# Altium footprint library PcbLib_V1.PcbLib: 20 footprints (part 1 of 2)
Each footprint in its own frame and in the unit in brackets; x right, y up, seen from the top. Pads: shape width x height; smd on the part's side, far side on the other; paste and mask are expansions set on the pad; w line width, h text height; cw(c..) or ccw(c..) is an arc to the next point about the centre after c.
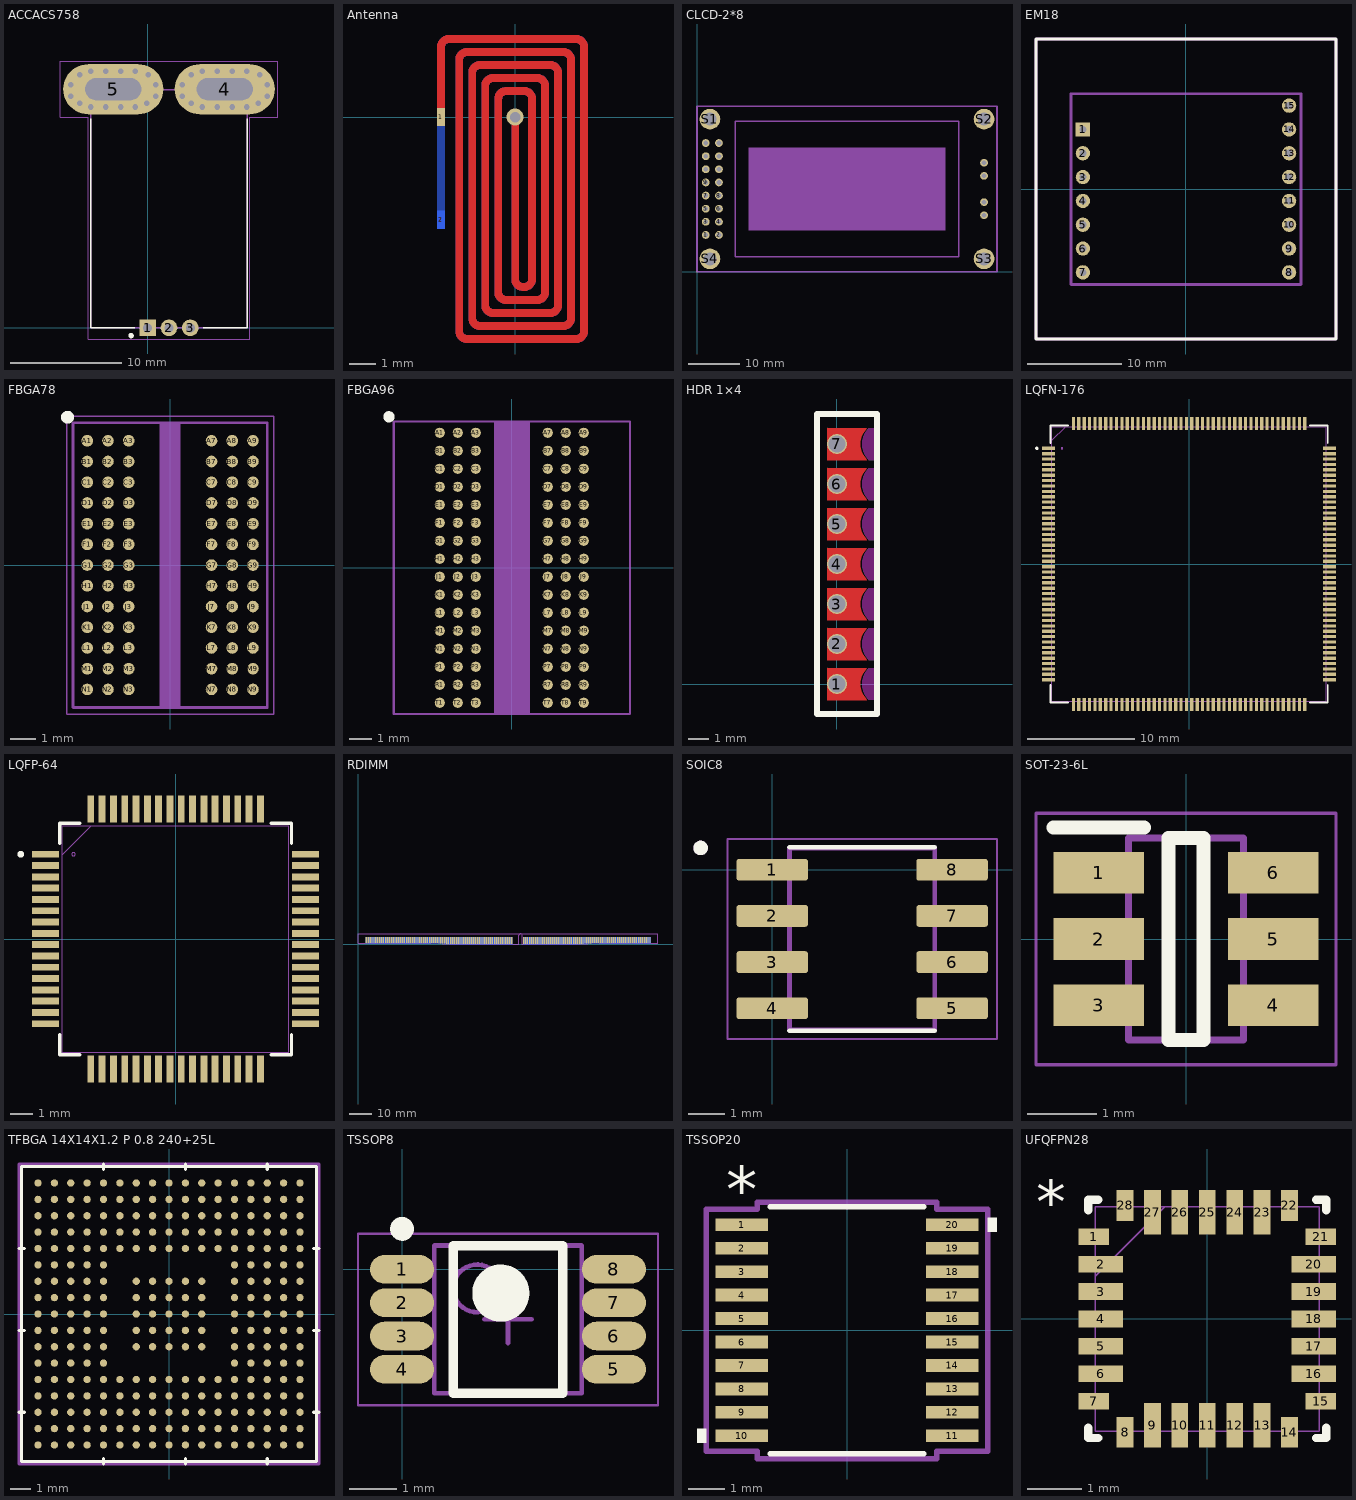
[diagram p0: the footprints below, top view; thin cyan lines are the x and y axes]

## ACCACS758 [mm]
pads (37):
  rect 1.5x1.5 hole 0.8: 1(0,0)
  round 1.5 hole 0.8: 2(1.91,0) 3(3.82,0)
  oval 9x4.5 hole 2 slot 5 at 0 deg: 4(6.91,21.4) 5(-3.09,21.4)
  round 0.8 hole 0.5: 4_1(4.91,19.8) 4_2(6.24,19.8) 4_3(7.57,19.8) 4_4(8.9,19.8) 4_5(9.91,20.13) 4_6(10.71,20.75) 4_7(10.71,21.8) 4_8(10.06,22.7) 4_9(8.9,23) 4_10(7.57,23) 4_11(6.24,23) 4_12(4.91,23) 4_13(3.91,22.7) 4_14(3.11,21.8) 4_15(3.11,20.75) 4_16(3.91,20.13) 5_1(-5.09,19.8) 5_2(-3.76,19.8) 5_3(-2.43,19.8) 5_4(-1.1,19.8) 5_5(-6.09,20.13) 5_6(-6.89,20.75) 5_7(-6.89,21.8) 5_8(-6.09,22.7) 5_9(-5.09,23) 5_10(-3.76,23) 5_11(-2.43,23) 5_12(-1.1,23) 5_13(0.06,22.7) 5_14(0.71,21.8) 5_15(0.71,20.75) 5_16(-0.09,20.13)
Top Overlay:
  circle w0.24: c-1.49,-0.7 r0.12
  lines w0.127: -5.09,18.76 -5.09,0 -1.15,0 ; 4.97,0 8.91,0 8.91,18.74
Mechanical 1:
  lines w0: -3.09,22.4 -3.04,22.4 ; 6.91,22.4 6.96,22.4 ; -5.09,20.4 cw(c-5.09,21.4) -5.09,22.4 -1.09,22.4 cw(c-1.09,21.4) -1.09,20.4 -5.09,20.4 ; 4.91,20.4 cw(c4.91,21.4) 4.91,22.4 8.91,22.4 cw(c8.91,21.4) 8.91,20.4 4.91,20.4
Mechanical 13:
  lines w0.127: -5.09,0 -5.09,21.341 8.91,21.341 8.91,0 -5.09,0
Mechanical 15:
  lines w0.05: -7.84,18.9 -5.34,18.9 -5.34,-1 9.16,-1 9.16,18.9 11.66,18.9 11.66,23.9 -7.84,23.9 -7.84,18.9
3D body "Allegro-CA-CB-PFF-Package.STEP": height 10.07, standoff -0.47, extent -5.102,-0.164 8.898,22.653

## Antenna [mm]
pads (2):
  rect 0.3x0.7 smd: 1(-2.85,0)
  rect 0.3x0.7 smd far side: 2(-2.85,-3.95)
via 0,0 diameter 0.65 hole 0.4
Top Layer:
  lines w0.3: -2.85,0 -2.85,2.7 cw(c-2.55,2.7) -2.55,3 2.35,3 cw(c2.35,2.7) 2.65,2.7 ; 0,0 0,-6.23 ccw(c0.3,-6.23) 0.3,-6.53 ; 0.35,-6.53 ccw(c0.35,-6.23) 0.65,-6.23 0.65,0.7 ccw(c0.35,0.7) 0.35,1 ; -1.15,1.2 cw(c-0.85,1.2) -0.85,1.5 0.85,1.5 ; -1.15,1.2 -1.15,1.2 ; -1.15,1.2 -1.15,-7.23 ccw(c-0.85,-7.23) -0.85,-7.53 1.35,-7.53 ccw(c1.35,-7.23) 1.65,-7.23 1.65,1.7 ccw(c1.35,1.7) 1.35,2 ; -0.65,0.7 cw(c-0.35,0.7) -0.35,1 0.35,1 ; -0.65,0.7 -0.65,0.7 ; -0.65,0.7 -0.65,-6.73 ccw(c-0.35,-6.73) -0.35,-7.03 0.85,-7.03 ccw(c0.85,-6.73) 1.15,-6.73 ; 0.35,1 0.35,1 ; 0.85,1.5 cw(c0.85,1.2) 1.15,1.2 1.15,-6.73 ; 0.85,1.5 0.85,1.5 ; 1.15,-6.73 1.15,-6.73 ; 1.35,2 1.35,2 ; 1.35,2 -1.35,2 ccw(c-1.35,1.7) -1.65,1.7 -1.65,-7.73 ccw(c-1.35,-7.73) -1.35,-8.03 1.85,-8.03 ccw(c1.85,-7.73) 2.15,-7.73 2.15,2.2 ccw(c1.85,2.2) 1.85,2.5 -1.85,2.5 ccw(c-1.85,2.2) -2.15,2.2 -2.15,-8.23 ccw(c-1.85,-8.23) -1.85,-8.53 2.35,-8.53 ccw(c2.35,-8.23) 2.65,-8.23 2.65,2.7 ; 2.65,2.7 2.65,2.7
Bottom Layer:
  lines w0.3: -2.85,-3.95 -2.85,2.7 cw(c-2.55,2.7) -2.55,3 2.35,3 cw(c2.35,2.7) 2.65,2.7 ; 0,0 0,-6.23 ccw(c0.3,-6.23) 0.3,-6.53 ; 0.35,-6.53 ccw(c0.35,-6.23) 0.65,-6.23 0.65,0.7 ccw(c0.35,0.7) 0.35,1 ; -1.15,1.2 cw(c-0.85,1.2) -0.85,1.5 0.85,1.5 ; -1.15,1.2 -1.15,1.2 ; -1.15,1.2 -1.15,-7.23 ccw(c-0.85,-7.23) -0.85,-7.53 1.35,-7.53 ccw(c1.35,-7.23) 1.65,-7.23 1.65,1.7 ccw(c1.35,1.7) 1.35,2 ; -0.65,0.7 cw(c-0.35,0.7) -0.35,1 0.35,1 ; -0.65,0.7 -0.65,0.7 ; -0.65,0.7 -0.65,-6.73 ccw(c-0.35,-6.73) -0.35,-7.03 0.85,-7.03 ccw(c0.85,-6.73) 1.15,-6.73 ; 0.35,1 0.35,1 ; 0.85,1.5 cw(c0.85,1.2) 1.15,1.2 1.15,-6.73 ; 0.85,1.5 0.85,1.5 ; 1.15,-6.73 1.15,-6.73 ; 1.35,2 -1.35,2 ccw(c-1.35,1.7) -1.65,1.7 -1.65,-7.73 ccw(c-1.35,-7.73) -1.35,-8.03 1.85,-8.03 ccw(c1.85,-7.73) 2.15,-7.73 2.15,2.2 ccw(c1.85,2.2) 1.85,2.5 -1.85,2.5 ccw(c-1.85,2.2) -2.15,2.2 -2.15,-8.23 ccw(c-1.85,-8.23) -1.85,-8.53 2.35,-8.53 ccw(c2.35,-8.23) 2.65,-8.23 2.65,2.7 ; 1.35,2 1.35,2 ; 2.65,2.7 2.65,2.7

## CLCD-2*8 [mm]
height 13.2
pads (24):
  round 1.5 hole 0.9: 1(1.7,7.11) 2(4.24,7.11) 3(1.7,9.65) 4(4.24,9.65) 5(1.7,12.19) 6(4.24,12.19) 7(1.7,14.73) 8(4.24,14.73) 9(1.7,17.27) 10(4.24,17.27) 11(1.7,19.81) 12(4.24,19.81) 13(1.7,22.35) 14(4.24,22.35) 15(1.7,24.89) 15(55.5,18.54) 15(55.5,21.08) 16(4.24,24.89) 16(55.5,10.92) 16(55.5,13.46)
  round 4 hole 2.5: S1(2.5,29.5) S2(55.5,29.5) S3(55.5,2.5) S4(2.5,2.5)
Mechanical 1:
  region: 10,8 10,24 48,24 48,8
  lines w0.3: 0,0 0,32 58,32 58,0 0,0 ; 7.4,2.9 50.6,2.9 50.6,29.1 7.4,29.1 7.4,2.9

## EM18 [mil] "RFID reader"
height 196.85
pads (15):
  rect 60x60 hole 30: 1(-433.07,250)
  round 60 hole 30: 2(-433.07,150) 3(-433.07,50) 4(-433.07,-50) 5(-433.07,-150) 6(-433.07,-250) 7(-433.07,-350) 8(433.07,-350) 9(433.07,-250) 10(433.07,-150) 11(433.07,-50) 12(433.07,50) 13(433.07,150) 14(433.07,250) 15(433.07,350)
Top Overlay:
  lines w11.81: -629.92,-629.92 629.92,-629.92 629.92,629.92 -629.92,629.92 -629.92,-629.92
Mechanical 1:
  lines w11.81: -483.07,-400.39 483.07,-400.39 483.07,400.39 -483.07,400.39 -483.07,-400.39
Mechanical 15:
  lines w11.81: -629.92,-629.92 629.92,-629.92 629.92,629.92 -629.92,629.92 -629.92,-629.92
3D body: height 118.11, standoff 11.81, extent -629.92,-629.92 629.92,629.92

## FBGA78 [mm] "BGA, 78-Leads, Body 7.50x11.00mmx1.10mm, Pitch 0.80mm"
height 1.1
pads (78):
  round 0.45 smd: A1(-3.2,4.8) A2(-2.4,4.8) A3(-1.6,4.8) A7(1.6,4.8) A8(2.4,4.8) A9(3.2,4.8) B1(-3.2,4) B2(-2.4,4) B3(-1.6,4) B7(1.6,4) B8(2.4,4) B9(3.2,4) C1(-3.2,3.2) C2(-2.4,3.2) C3(-1.6,3.2) C7(1.6,3.2) C8(2.4,3.2) C9(3.2,3.2) D1(-3.2,2.4) D2(-2.4,2.4) D3(-1.6,2.4) D7(1.6,2.4) D8(2.4,2.4) D9(3.2,2.4) E1(-3.2,1.6) E2(-2.4,1.6) E3(-1.6,1.6) E7(1.6,1.6) E8(2.4,1.6) E9(3.2,1.6) F1(-3.2,0.8) F2(-2.4,0.8) F3(-1.6,0.8) F7(1.6,0.8) F8(2.4,0.8) F9(3.2,0.8) G1(-3.2,0) G2(-2.4,0) G3(-1.6,0) G7(1.6,0) G8(2.4,0) G9(3.2,0) H1(-3.2,-0.8) H2(-2.4,-0.8) H3(-1.6,-0.8) H7(1.6,-0.8) H8(2.4,-0.8) H9(3.2,-0.8) J1(-3.2,-1.6) J2(-2.4,-1.6) J3(-1.6,-1.6) J7(1.6,-1.6) J8(2.4,-1.6) J9(3.2,-1.6) K1(-3.2,-2.4) K2(-2.4,-2.4) K3(-1.6,-2.4) K7(1.6,-2.4) K8(2.4,-2.4) K9(3.2,-2.4) L1(-3.2,-3.2) L2(-2.4,-3.2) L3(-1.6,-3.2) L7(1.6,-3.2) L8(2.4,-3.2) L9(3.2,-3.2) M1(-3.2,-4) M2(-2.4,-4) M3(-1.6,-4) M7(1.6,-4) M8(2.4,-4) M9(3.2,-4) N1(-3.2,-4.8) N2(-2.4,-4.8) N3(-1.6,-4.8) N7(1.6,-4.8) N8(2.4,-4.8) N9(3.2,-4.8)
Top Overlay:
  circle w0.25: c-3.96,5.71 r0.125
Mechanical 13:
  lines w0.1: -3.75,-5.5 3.75,-5.5 3.75,5.5 -3.75,5.5 -3.75,-5.5
Mechanical 15:
  rectangle: -0.4,-5.5 0.4,5.5
  lines w0.05: -4,-5.75 4,-5.75 4,5.75 -4,5.75 -4,-5.75
3D body: height 1.1, standoff 0.4, extent -3.75,-5.5 3.75,5.5

## FBGA96 [mm] "BGA, 96-Leads, Body 10.50x13.00mmx1.10mm, Pitch 0.80mm"
height 1.1
pads (96):
  round 0.45 smd: A1(-3.2,6) A2(-2.4,6) A3(-1.6,6) A7(1.6,6) A8(2.4,6) A9(3.2,6) B1(-3.2,5.2) B2(-2.4,5.2) B3(-1.6,5.2) B7(1.6,5.2) B8(2.4,5.2) B9(3.2,5.2) C1(-3.2,4.4) C2(-2.4,4.4) C3(-1.6,4.4) C7(1.6,4.4) C8(2.4,4.4) C9(3.2,4.4) D1(-3.2,3.6) D2(-2.4,3.6) D3(-1.6,3.6) D7(1.6,3.6) D8(2.4,3.6) D9(3.2,3.6) E1(-3.2,2.8) E2(-2.4,2.8) E3(-1.6,2.8) E7(1.6,2.8) E8(2.4,2.8) E9(3.2,2.8) F1(-3.2,2) F2(-2.4,2) F3(-1.6,2) F7(1.6,2) F8(2.4,2) F9(3.2,2) G1(-3.2,1.2) G2(-2.4,1.2) G3(-1.6,1.2) G7(1.6,1.2) G8(2.4,1.2) G9(3.2,1.2) H1(-3.2,0.4) H2(-2.4,0.4) H3(-1.6,0.4) H7(1.6,0.4) H8(2.4,0.4) H9(3.2,0.4) J1(-3.2,-0.4) J2(-2.4,-0.4) J3(-1.6,-0.4) J7(1.6,-0.4) J8(2.4,-0.4) J9(3.2,-0.4) K1(-3.2,-1.2) K2(-2.4,-1.2) K3(-1.6,-1.2) K7(1.6,-1.2) K8(2.4,-1.2) K9(3.2,-1.2) L1(-3.2,-2) L2(-2.4,-2) L3(-1.6,-2) L7(1.6,-2) L8(2.4,-2) L9(3.2,-2) M1(-3.2,-2.8) M2(-2.4,-2.8) M3(-1.6,-2.8) M7(1.6,-2.8) M8(2.4,-2.8) M9(3.2,-2.8) N1(-3.2,-3.6) N2(-2.4,-3.6) N3(-1.6,-3.6) N7(1.6,-3.6) N8(2.4,-3.6) N9(3.2,-3.6) P1(-3.2,-4.4) P2(-2.4,-4.4) P3(-1.6,-4.4) P7(1.6,-4.4) P8(2.4,-4.4) P9(3.2,-4.4) R1(-3.2,-5.2) R2(-2.4,-5.2) R3(-1.6,-5.2) R7(1.6,-5.2) R8(2.4,-5.2) R9(3.2,-5.2) T1(-3.2,-6) T2(-2.4,-6) T3(-1.6,-6) T7(1.6,-6) T8(2.4,-6) T9(3.2,-6)
Top Overlay:
  circle w0.25: c-5.46,6.71 r0.125
Mechanical 13:
  lines w0.1: -5.25,-6.5 -5.25,6.5 5.25,6.5 5.25,-6.5 -5.25,-6.5
Mechanical 15:
  rectangle: -0.8,-6.5 0.8,6.5
3D body: height 1.1, standoff 0.4, extent -5.25,-6.5 5.25,6.5

## HDR 1×4 [mm]
height 10
pads (7):
  round 1 hole 0.85 paste+0 mask+0.102: 1(0,0) 2(0,2) 3(0,4) 4(0,6) 5(0,8) 6(0,10) 7(0,12)
Top Layer:
  region: -0.5,2.8 1.5,2.8 1.425,2.718 1.302,2.533 1.217,2.328 1.174,2.111 1.174,1.889 1.217,1.672 1.302,1.467 1.425,1.282 1.5,1.2 -0.5,1.2
  region: -0.5,4.8 1.5,4.8 1.425,4.718 1.302,4.533 1.217,4.328 1.174,4.111 1.174,3.889 1.217,3.672 1.302,3.467 1.425,3.282 1.5,3.2 -0.5,3.2
  region: -0.5,6.8 1.5,6.8 1.425,6.718 1.302,6.533 1.217,6.328 1.174,6.111 1.174,5.889 1.217,5.672 1.302,5.467 1.425,5.282 1.5,5.2 -0.5,5.2
  region: -0.5,8.8 1.5,8.8 1.425,8.718 1.302,8.533 1.217,8.328 1.174,8.111 1.174,7.889 1.217,7.672 1.302,7.467 1.425,7.282 1.5,7.2 -0.5,7.2
  region: -0.5,10.8 1.5,10.8 1.425,10.718 1.302,10.533 1.217,10.328 1.174,10.111 1.174,9.889 1.217,9.672 1.302,9.467 1.425,9.282 1.5,9.2 -0.5,9.2
  region: -0.5,12.8 1.5,12.8 1.425,12.718 1.302,12.533 1.217,12.328 1.174,12.111 1.174,11.889 1.217,11.672 1.302,11.467 1.425,11.282 1.5,11.2 -0.5,11.2
  region: -0.5,0.8 1.5,0.8 1.425,0.718 1.302,0.533 1.217,0.328 1.174,0.111 1.174,-0.111 1.217,-0.328 1.302,-0.533 1.425,-0.718 1.5,-0.8 -0.5,-0.8
Top Overlay:
  lines w0.3: -1,-1.5 -1,13.5 2,13.5 2,-1.5 -1,-1.5
Keep-Out Layer:
  board cut-out: 1.6,0.8 2,0.8 2,-0.8 1.6,-0.8 1.521,-0.721 1.397,-0.536 1.312,-0.33 1.269,-0.111 1.269,0.111 1.312,0.33 1.397,0.536 1.521,0.721
  board cut-out: 1.6,2.8 2,2.8 2,1.2 1.6,1.2 1.521,1.279 1.397,1.464 1.312,1.67 1.269,1.889 1.269,2.111 1.312,2.33 1.397,2.536 1.521,2.721
  board cut-out: 1.6,4.8 2,4.8 2,3.2 1.6,3.2 1.521,3.279 1.397,3.464 1.312,3.67 1.269,3.889 1.269,4.111 1.312,4.33 1.397,4.536 1.521,4.721
  board cut-out: 1.6,6.8 2,6.8 2,5.2 1.6,5.2 1.521,5.279 1.397,5.464 1.312,5.67 1.269,5.889 1.269,6.111 1.312,6.33 1.397,6.536 1.521,6.721
  board cut-out: 1.6,8.8 2,8.8 2,7.2 1.6,7.2 1.521,7.279 1.397,7.464 1.312,7.67 1.269,7.889 1.269,8.111 1.312,8.33 1.397,8.536 1.521,8.721
  board cut-out: 1.6,10.8 2,10.8 2,9.2 1.6,9.2 1.521,9.279 1.397,9.464 1.312,9.67 1.269,9.889 1.269,10.111 1.312,10.33 1.397,10.536 1.521,10.721
  board cut-out: 1.6,12.8 2,12.8 2,11.2 1.6,11.2 1.521,11.279 1.397,11.464 1.312,11.67 1.269,11.889 1.269,12.111 1.312,12.33 1.397,12.536 1.521,12.721

## LQFN-176 [mm]
pads (176):
  rect 1.2x0.3 smd: 1(-13.05,10.75) 2(-13.05,10.25) 3(-13.05,9.75) 4(-13.05,9.25) 5(-13.05,8.75) 6(-13.05,8.25) 7(-13.05,7.75) 8(-13.05,7.25) 9(-13.05,6.75) 10(-13.05,6.25) 11(-13.05,5.75) 12(-13.05,5.25) 13(-13.05,4.75) 14(-13.05,4.25) 15(-13.05,3.75) 16(-13.05,3.25) 17(-13.05,2.75) 18(-13.05,2.25) 19(-13.05,1.75) 20(-13.05,1.25) 21(-13.05,0.75) 22(-13.05,0.25) 23(-13.05,-0.25) 24(-13.05,-0.75) 25(-13.05,-1.25) 26(-13.05,-1.75) 27(-13.05,-2.25) 28(-13.05,-2.75) 29(-13.05,-3.25) 30(-13.05,-3.75) 31(-13.05,-4.25) 32(-13.05,-4.75) 33(-13.05,-5.25) 34(-13.05,-5.75) 35(-13.05,-6.25) 36(-13.05,-6.75) 37(-13.05,-7.25) 38(-13.05,-7.75) 39(-13.05,-8.25) 40(-13.05,-8.75) 41(-13.05,-9.25) 42(-13.05,-9.75) 43(-13.05,-10.25) 44(-13.05,-10.75) 89(13.05,-10.75) 90(13.05,-10.25) 91(13.05,-9.75) 92(13.05,-9.25) 93(13.05,-8.75) 94(13.05,-8.25) 95(13.05,-7.75) 96(13.05,-7.25) 97(13.05,-6.75) 98(13.05,-6.25) 99(13.05,-5.75) 100(13.05,-5.25) 101(13.05,-4.75) 102(13.05,-4.25) 103(13.05,-3.75) 104(13.05,-3.25) 105(13.05,-2.75) 106(13.05,-2.25) 107(13.05,-1.75) 108(13.05,-1.25) 109(13.05,-0.75) 110(13.05,-0.25) 111(13.05,0.25) 112(13.05,0.75) 113(13.05,1.25) 114(13.05,1.75) 115(13.05,2.25) 116(13.05,2.75) 117(13.05,3.25) 118(13.05,3.75) 119(13.05,4.25) 120(13.05,4.75) 121(13.05,5.25) 122(13.05,5.75) 123(13.05,6.25) 124(13.05,6.75) 125(13.05,7.25) 126(13.05,7.75) 127(13.05,8.25) 128(13.05,8.75) 129(13.05,9.25) 130(13.05,9.75) 131(13.05,10.25) 132(13.05,10.75)
  rect 0.3x1.2 smd: 45(-10.75,-13.05) 46(-10.25,-13.05) 47(-9.75,-13.05) 48(-9.25,-13.05) 49(-8.75,-13.05) 50(-8.25,-13.05) 51(-7.75,-13.05) 52(-7.25,-13.05) 53(-6.75,-13.05) 54(-6.25,-13.05) 55(-5.75,-13.05) 56(-5.25,-13.05) 57(-4.75,-13.05) 58(-4.25,-13.05) 59(-3.75,-13.05) 60(-3.25,-13.05) 61(-2.75,-13.05) 62(-2.25,-13.05) 63(-1.75,-13.05) 64(-1.25,-13.05) 65(-0.75,-13.05) 66(-0.25,-13.05) 67(0.25,-13.05) 68(0.75,-13.05) 69(1.25,-13.05) 70(1.75,-13.05) 71(2.25,-13.05) 72(2.75,-13.05) 73(3.25,-13.05) 74(3.75,-13.05) 75(4.25,-13.05) 76(4.75,-13.05) 77(5.25,-13.05) 78(5.75,-13.05) 79(6.25,-13.05) 80(6.75,-13.05) 81(7.25,-13.05) 82(7.75,-13.05) 83(8.25,-13.05) 84(8.75,-13.05) 85(9.25,-13.05) 86(9.75,-13.05) 87(10.25,-13.05) 88(10.75,-13.05) 133(10.75,13.05) 134(10.25,13.05) 135(9.75,13.05) 136(9.25,13.05) 137(8.75,13.05) 138(8.25,13.05) 139(7.75,13.05) 140(7.25,13.05) 141(6.75,13.05) 142(6.25,13.05) 143(5.75,13.05) 144(5.25,13.05) 145(4.75,13.05) 146(4.25,13.05) 147(3.75,13.05) 148(3.25,13.05) 149(2.75,13.05) 150(2.25,13.05) 151(1.75,13.05) 152(1.25,13.05) 153(0.75,13.05) 154(0.25,13.05) 155(-0.25,13.05) 156(-0.75,13.05) 157(-1.25,13.05) 158(-1.75,13.05) 159(-2.25,13.05) 160(-2.75,13.05) 161(-3.25,13.05) 162(-3.75,13.05) 163(-4.25,13.05) 164(-4.75,13.05) 165(-5.25,13.05) 166(-5.75,13.05) 167(-6.25,13.05) 168(-6.75,13.05) 169(-7.25,13.05) 170(-7.75,13.05) 171(-8.25,13.05) 172(-8.75,13.05) 173(-9.25,13.05) 174(-9.75,13.05) 175(-10.25,13.05) 176(-10.75,13.05)
Top Overlay:
  circle w0.152: c-14.154,10.75 r0.076
  lines w0.152: -12.877,-11.233 -12.877,-12.877 -11.233,-12.877 ; -12.877,11.233 -12.877,12.877 -11.233,12.877 ; 11.233,-12.877 12.877,-12.877 12.877,-11.233 ; 11.233,12.877 12.877,12.877 12.877,11.233
Mechanical 1:
  circle w0.025: c-11.815,10.75 r0.076
  lines w0.025: -12.75,11.48 -11.48,12.75 ; -12.75,-12.75 -12.75,12.75 12.75,12.75 12.75,-12.75 -12.75,-12.75
3D body "LQFP-176.step": height 1.65, standoff 0, extent -13.3,-13.3 13.3,13.3

## LQFP-64 [mm]
pads (64):
  rect 1.194x0.305 smd: 1(-5.75,3.75) 2(-5.75,3.25) 3(-5.75,2.75) 4(-5.75,2.25) 5(-5.75,1.75) 6(-5.75,1.25) 7(-5.75,0.75) 8(-5.75,0.25) 9(-5.75,-0.25) 10(-5.75,-0.75) 11(-5.75,-1.25) 12(-5.75,-1.75) 13(-5.75,-2.25) 14(-5.75,-2.75) 15(-5.75,-3.25) 16(-5.75,-3.75) 33(5.75,-3.75) 34(5.75,-3.25) 35(5.75,-2.75) 36(5.75,-2.25) 37(5.75,-1.75) 38(5.75,-1.25) 39(5.75,-0.75) 40(5.75,-0.25) 41(5.75,0.25) 42(5.75,0.75) 43(5.75,1.25) 44(5.75,1.75) 45(5.75,2.25) 46(5.75,2.75) 47(5.75,3.25) 48(5.75,3.75)
  rect 0.305x1.194 smd: 17(-3.75,-5.75) 18(-3.25,-5.75) 19(-2.75,-5.75) 20(-2.25,-5.75) 21(-1.75,-5.75) 22(-1.25,-5.75) 23(-0.75,-5.75) 24(-0.25,-5.75) 25(0.25,-5.75) 26(0.75,-5.75) 27(1.25,-5.75) 28(1.75,-5.75) 29(2.25,-5.75) 30(2.75,-5.75) 31(3.25,-5.75) 32(3.75,-5.75) 49(3.75,5.75) 50(3.25,5.75) 51(2.75,5.75) 52(2.25,5.75) 53(1.75,5.75) 54(1.25,5.75) 55(0.75,5.75) 56(0.25,5.75) 57(-0.25,5.75) 58(-0.75,5.75) 59(-1.25,5.75) 60(-1.75,5.75) 61(-2.25,5.75) 62(-2.75,5.75) 63(-3.25,5.75) 64(-3.75,5.75)
Top Overlay:
  circle w0.152: c-6.851,3.75 r0.076
  lines w0.152: -5.131,-4.234 -5.131,-5.131 -4.234,-5.131 ; -5.131,4.234 -5.131,5.131 -4.234,5.131 ; 4.234,-5.131 5.131,-5.131 5.131,-4.234 ; 4.234,5.131 5.131,5.131 5.131,4.234
Mechanical 1:
  circle w0.025: c-4.518,3.75 r0.076
  lines w0.025: -5.004,3.734 -3.734,5.004 ; -5.004,-5.004 5.004,-5.004 5.004,5.004 -5.004,5.004 -5.004,-5.004
3D body "LQFP64-10x10mm.step": height 1.6, standoff 0, extent -5.997,-5.997 5.997,5.997

## RDIMM [mm]
pads (288):
  rect 0.6x2.65 smd mask+0: 1(3.7,1.825) 2(4.55,1.825) 3(5.4,1.825) 4(6.25,1.825) 5(7.1,1.825) 6(7.95,1.825) 7(8.8,1.825) 8(9.65,1.825) 9(10.5,1.825) 10(11.35,1.825) 11(12.2,1.825) 12(13.05,1.825) 13(13.9,1.825) 14(14.75,1.825) 15(15.6,1.825) 16(16.45,1.825) 17(17.3,1.825) 18(18.15,1.825) 19(19,1.825) 20(19.85,1.825) 21(20.7,1.825) 22(21.55,1.825) 23(22.4,1.825) 24(23.25,1.825) 25(24.1,1.825) 26(24.95,1.825) 27(25.8,1.825) 28(26.65,1.825) 29(27.5,1.825) 30(28.35,1.825) 31(29.2,1.825) 32(30.05,1.825) 33(30.9,1.825) 34(31.75,1.825) 35(32.6,1.825) 36(33.45,1.825) 37(34.3,1.825) 115(105.12,1.825) 116(105.97,1.825) 117(106.82,1.825) 118(107.67,1.825) 119(108.52,1.825) 120(109.37,1.825) 121(110.22,1.825) 122(111.07,1.825) 123(111.92,1.825) 124(112.77,1.825) 125(113.62,1.825) 126(114.47,1.825) 127(115.32,1.825) 128(116.17,1.825) 129(117.02,1.825) 130(117.87,1.825) 131(118.72,1.825) 132(119.57,1.825) 133(120.42,1.825) 134(121.27,1.825) 135(122.12,1.825) 136(122.97,1.825) 137(123.82,1.825) 138(124.67,1.825) 139(125.52,1.825) 140(126.37,1.825) 141(127.22,1.825) 142(128.07,1.825) 143(128.92,1.825) 144(129.77,1.825)
  rect 0.6x2.7 smd mask+0: 38(35.15,1.8) 114(104.27,1.8)
  rect 0.6x2.75 smd mask+0: 39(36,1.775) 113(103.42,1.775)
  rect 0.6x2.8 smd mask+0: 40(36.85,1.75) 112(102.57,1.75)
  rect 0.6x2.85 smd mask+0: 41(37.7,1.725) 111(101.72,1.725)
  rect 0.6x2.9 smd mask+0: 42(38.55,1.7) 110(100.87,1.7)
  rect 0.6x2.95 smd mask+0: 43(39.4,1.675) 109(100.02,1.675)
  rect 0.6x3 smd mask+0: 44(40.25,1.65) 108(99.17,1.65)
  rect 0.6x3.05 smd mask+0: 45(41.1,1.625) 107(98.32,1.625)
  rect 0.6x3.1 smd mask+0: 46(41.95,1.6) 106(97.47,1.6)
  rect 0.6x3.15 smd mask+0: 47(42.8,1.575) 48(43.65,1.575) 49(44.5,1.575) 50(45.35,1.575) 51(46.2,1.575) 52(47.05,1.575) 53(47.9,1.575) 54(48.75,1.575) 55(49.6,1.575) 56(50.45,1.575) 57(51.3,1.575) 58(52.15,1.575) 59(53,1.575) 60(53.85,1.575) 61(54.7,1.575) 62(55.55,1.575) 63(56.4,1.575) 64(57.25,1.575) 65(58.1,1.575) 66(58.95,1.575) 67(59.8,1.575) 68(60.65,1.575) 69(61.5,1.575) 70(62.35,1.575) 71(63.2,1.575) 72(64.05,1.575) 73(64.9,1.575) 74(65.75,1.575) 75(66.6,1.575) 76(67.45,1.575) 77(68.3,1.575) 78(73.67,1.575) 79(74.52,1.575) 80(75.37,1.575) 81(76.22,1.575) 82(77.07,1.575) 83(77.92,1.575) 84(78.77,1.575) 85(79.62,1.575) 86(80.47,1.575) 87(81.32,1.575) 88(82.17,1.575) 89(83.02,1.575) 90(83.87,1.575) 91(84.72,1.575) 92(85.57,1.575) 93(86.42,1.575) 94(87.27,1.575) 95(88.12,1.575) 96(88.97,1.575) 97(89.82,1.575) 98(90.67,1.575) 99(91.52,1.575) 100(92.37,1.575) 101(93.22,1.575) 102(94.07,1.575) 103(94.92,1.575) 104(95.77,1.575) 105(96.62,1.575)
  rect 0.6x2.65 smd far side mask+0: 145(3.7,1.825) 146(4.55,1.825) 147(5.4,1.825) 148(6.25,1.825) 149(7.1,1.825) 150(7.95,1.825) 151(8.8,1.825) 152(9.65,1.825) 153(10.5,1.825) 154(11.35,1.825) 155(12.2,1.825) 156(13.05,1.825) 157(13.9,1.825) 158(14.75,1.825) 159(15.6,1.825) 160(16.45,1.825) 161(17.3,1.825) 162(18.15,1.825) 163(19,1.825) 164(19.85,1.825) 165(20.7,1.825) 166(21.55,1.825) 167(22.4,1.825) 168(23.25,1.825) 169(24.1,1.825) 170(24.95,1.825) 171(25.8,1.825) 172(26.65,1.825) 173(27.5,1.825) 174(28.35,1.825) 175(29.2,1.825) 176(30.05,1.825) 177(30.9,1.825) 178(31.75,1.825) 179(32.6,1.825) 180(33.45,1.825) 181(34.3,1.825) 259(105.12,1.825) 260(105.97,1.825) 261(106.82,1.825) 262(107.67,1.825) 263(108.52,1.825) 264(109.37,1.825) 265(110.22,1.825) 266(111.07,1.825) 267(111.92,1.825) 268(112.77,1.825) 269(113.62,1.825) 270(114.47,1.825) 271(115.32,1.825) 272(116.17,1.825) 273(117.02,1.825) 274(117.87,1.825) 275(118.72,1.825) 276(119.57,1.825) 277(120.42,1.825) 278(121.27,1.825) 279(122.12,1.825) 280(122.97,1.825) 281(123.82,1.825) 282(124.67,1.825) 283(125.52,1.825) 284(126.37,1.825) 285(127.22,1.825) 286(128.07,1.825) 287(128.92,1.825) 288(129.77,1.825)
  rect 0.6x2.7 smd far side mask+0: 182(35.15,1.8) 258(104.27,1.8)
  rect 0.6x2.75 smd far side mask+0: 183(36,1.775) 257(103.42,1.775)
  rect 0.6x2.8 smd far side mask+0: 184(36.85,1.75) 256(102.57,1.75)
  rect 0.6x2.85 smd far side mask+0: 185(37.7,1.725) 255(101.72,1.725)
  rect 0.6x2.9 smd far side mask+0: 186(38.55,1.7) 254(100.87,1.7)
  rect 0.6x2.95 smd far side mask+0: 187(39.4,1.675) 253(100.02,1.675)
  rect 0.6x3 smd far side mask+0: 188(40.25,1.65) 252(99.17,1.65)
  rect 0.6x3.05 smd far side mask+0: 189(41.1,1.625) 251(98.32,1.625)
  rect 0.6x3.1 smd far side mask+0: 190(41.95,1.6) 250(97.47,1.6)
  rect 0.6x3.15 smd far side mask+0: 191(42.8,1.575) 192(43.65,1.575) 193(44.5,1.575) 194(45.35,1.575) 195(46.2,1.575) 196(47.05,1.575) 197(47.9,1.575) 198(48.75,1.575) 199(49.6,1.575) 200(50.45,1.575) 201(51.3,1.575) 202(52.15,1.575) 203(53,1.575) 204(53.85,1.575) 205(54.7,1.575) 206(55.55,1.575) 207(56.4,1.575) 208(57.25,1.575) 209(58.1,1.575) 210(58.95,1.575) 211(59.8,1.575) 212(60.65,1.575) 213(61.5,1.575) 214(62.35,1.575) 215(63.2,1.575) 216(64.05,1.575) 217(64.9,1.575) 218(65.75,1.575) 219(66.6,1.575) 220(67.45,1.575) 221(68.3,1.575) 222(73.67,1.575) 223(74.52,1.575) 224(75.37,1.575) 225(76.22,1.575) 226(77.07,1.575) 227(77.92,1.575) 228(78.77,1.575) 229(79.62,1.575) 230(80.47,1.575) 231(81.32,1.575) 232(82.17,1.575) 233(83.02,1.575) 234(83.87,1.575) 235(84.72,1.575) 236(85.57,1.575) 237(86.42,1.575) 238(87.27,1.575) 239(88.12,1.575) 240(88.97,1.575) 241(89.82,1.575) 242(90.67,1.575) 243(91.52,1.575) 244(92.37,1.575) 245(93.22,1.575) 246(94.07,1.575) 247(94.92,1.575) 248(95.77,1.575) 249(96.62,1.575)
Mechanical 15:
  lines w0.1: 73.025,0 73,0 73,3.9 ccw(c72.25,3.9) 71.5,3.9 71.5,0 42.45,0 32.25,0.5 0,0.5 0,4.65 133.35,4.65 133.35,0.5 107.17,0.5 96.97,0 73.12,0

## SOIC8 [mm]
pads (8):
  rrect25% 1.97x0.6 smd: 1(0,0) 2(0,-1.27) 3(0,-2.54) 4(0,-3.81) 5(4.95,-3.81) 6(4.95,-2.54) 7(4.95,-1.27) 8(4.95,0)
Top Overlay:
  circle w0.2: c-1.97,0.6 r0.1
  lines w0.127: 0.475,-4.43 4.475,-4.43 ; 0.475,0.62 4.475,0.62
Mechanical 13:
  circle w0.2: c-1.97,0.6 r0.1
  lines w0.127: 0.475,-4.405 4.475,-4.405 4.475,0.595 0.475,0.595 0.475,-4.405
Mechanical 15:
  lines w0.05: -1.235,-4.655 6.185,-4.655 6.185,0.845 -1.235,0.845 -1.235,-4.655
3D body "Allegro-LC-Package.STEP": height 1.61, standoff 0.01, extent -0.489,-4.359 5.511,0.541

## SOT-23-6L [mm] "SOT23, 6-Leads, Body 2.90x2.85mm, Pitch 0.95mm, IPC Medium Density"
height 1.26
pads (6):
  rect 1.3x0.6 smd: 1(-1.25,0.95) 2(-1.25,0) 3(-1.25,-0.95) 4(1.25,-0.95) 5(1.25,0) 6(1.25,0.95)
Top Overlay:
  lines w0.2: -1.9,1.6 -0.6,1.6 ; -0.25,-1.45 -0.25,1.45 0.25,1.45 0.25,-1.45 -0.25,-1.45
Mechanical 15:
  lines w0.1: -0.825,-1.45 -0.825,1.45 0.825,1.45 0.825,-1.45 -0.825,-1.45
Mechanical 20:
  lines w0.05: -2.15,-1.8 -2.15,1.8 2.15,1.8 2.15,-1.8 -2.15,-1.8

## TFBGA 14X14X1.2 P 0.8 240+25L [mil]
pads (265):
  round 14 smd paste+0 mask+0: A1(-251.97,251.97) A2(-220.47,251.97) A3(-188.98,251.97) A4(-157.48,251.97) A5(-125.98,251.97) A6(-94.49,251.97) A7(-62.99,251.97) A8(-31.5,251.97) A9(0,251.97) A10(31.5,251.97) A11(62.99,251.97) A12(94.49,251.97) A13(125.98,251.97) A14(157.48,251.97) A15(188.98,251.97) A16(220.47,251.97) A17(251.97,251.97) B1(-251.97,220.47) B2(-220.47,220.47) B3(-188.98,220.47) B4(-157.48,220.47) B5(-125.98,220.47) B6(-94.49,220.47) B7(-62.99,220.47) B8(-31.5,220.47) B9(0,220.47) B10(31.5,220.47) B11(62.99,220.47) B12(94.49,220.47) B13(125.98,220.47) B14(157.48,220.47) B15(188.98,220.47) B16(220.47,220.47) B17(251.97,220.47) C1(-251.97,188.98) C2(-220.47,188.98) C3(-188.98,188.98) C4(-157.48,188.98) C5(-125.98,188.98) C6(-94.49,188.98) C7(-62.99,188.98) C8(-31.5,188.98) C9(0,188.98) C10(31.5,188.98) C11(62.99,188.98) C12(94.49,188.98) C13(125.98,188.98) C14(157.48,188.98) C15(188.98,188.98) C16(220.47,188.98) C17(251.97,188.98) D1(-251.97,157.48) D2(-220.47,157.48) D3(-188.98,157.48) D4(-157.48,157.48) D5(-125.98,157.48) D6(-94.49,157.48) D7(-62.99,157.48) D8(-31.5,157.48) D9(0,157.48) D10(31.5,157.48) D11(62.99,157.48) D12(94.49,157.48) D13(125.98,157.48) D14(157.48,157.48) D15(188.98,157.48) D16(220.47,157.48) D17(251.97,157.48) E1(-251.97,125.98) E2(-220.47,125.98) E3(-188.98,125.98) E4(-157.48,125.98) E5(-125.98,125.98) E6(-94.49,125.98) E7(-62.99,125.98) E8(-31.5,125.98) E9(0,125.98) E10(31.5,125.98) E11(62.99,125.98) E12(94.49,125.98) E13(125.98,125.98) E14(157.48,125.98) E15(188.98,125.98) E16(220.47,125.98) E17(251.97,125.98) F1(-251.97,94.49) F2(-220.47,94.49) F3(-188.98,94.49) F4(-157.48,94.49) F5(-125.98,94.49) F13(125.98,94.49) F14(157.48,94.49) F15(188.98,94.49) F16(220.47,94.49) F17(251.97,94.49) G1(-251.97,62.99) G2(-220.47,62.99) G3(-188.98,62.99) G4(-157.48,62.99) G5(-125.98,62.99) G7(-62.99,62.99) G8(-31.5,62.99) G9(0,62.99) G10(31.5,62.99) G11(62.99,62.99) G13(125.98,62.99) G14(157.48,62.99) G15(188.98,62.99) G16(220.47,62.99) G17(251.97,62.99) H1(-251.97,31.5) H2(-220.47,31.5) H3(-188.98,31.5) H4(-157.48,31.5) H5(-125.98,31.5) H7(-62.99,31.5) H8(-31.5,31.5) H9(0,31.5) H10(31.5,31.5) H11(62.99,31.5) H13(125.98,31.5) H14(157.48,31.5) H15(188.98,31.5) H16(220.47,31.5) H17(251.97,31.5) J1(-251.97,0) J2(-220.47,0) J3(-188.98,0) J4(-157.48,0) J5(-125.98,0) J7(-62.99,0) J8(-31.5,0) J9(0,0) J10(31.5,0) J11(62.99,0) J13(125.98,0) J14(157.48,0) J15(188.98,0) J16(220.47,0) J17(251.97,0) K1(-251.97,-31.5) K2(-220.47,-31.5) K3(-188.98,-31.5) K4(-157.48,-31.5) K5(-125.98,-31.5) K7(-62.99,-31.5) K8(-31.5,-31.5) K9(0,-31.5) K10(31.5,-31.5) K11(62.99,-31.5) K13(125.98,-31.5) K14(157.48,-31.5) K15(188.98,-31.5) K16(220.47,-31.5) K17(251.97,-31.5) L1(-251.97,-62.99) L2(-220.47,-62.99) L3(-188.98,-62.99) L4(-157.48,-62.99) L5(-125.98,-62.99) L7(-62.99,-62.99) L8(-31.5,-62.99) L9(0,-62.99) L10(31.5,-62.99) L11(62.99,-62.99) L13(125.98,-62.99) L14(157.48,-62.99) L15(188.98,-62.99) L16(220.47,-62.99) L17(251.97,-62.99) M1(-251.97,-94.49) M2(-220.47,-94.49) M3(-188.98,-94.49) M4(-157.48,-94.49) M5(-125.98,-94.49) M13(125.98,-94.49) M14(157.48,-94.49) M15(188.98,-94.49) M16(220.47,-94.49) M17(251.97,-94.49) N1(-251.97,-125.98) N2(-220.47,-125.98) N3(-188.98,-125.98) N4(-157.48,-125.98) N5(-125.98,-125.98) N6(-94.49,-125.98) N7(-62.99,-125.98) N8(-31.5,-125.98) N9(0,-125.98) N10(31.5,-125.98) N11(62.99,-125.98) N12(94.49,-125.98) N13(125.98,-125.98) N14(157.48,-125.98) N15(188.98,-125.98) N16(220.47,-125.98) N17(251.97,-125.98) P1(-251.97,-157.48) P2(-220.47,-157.48) P3(-188.98,-157.48) P4(-157.48,-157.48) P5(-125.98,-157.48) P6(-94.49,-157.48) P7(-62.99,-157.48) P8(-31.5,-157.48) P9(0,-157.48) P10(31.5,-157.48) P11(62.99,-157.48) P12(94.49,-157.48) P13(125.98,-157.48) P14(157.48,-157.48) P15(188.98,-157.48) P16(220.47,-157.48) P17(251.97,-157.48) R1(-251.97,-188.98) R2(-220.47,-188.98) R3(-188.98,-188.98) R4(-157.48,-188.98) R5(-125.98,-188.98) R6(-94.49,-188.98) R7(-62.99,-188.98) R8(-31.5,-188.98) R9(0,-188.98) R10(31.5,-188.98) R11(62.99,-188.98) R12(94.49,-188.98) R13(125.98,-188.98) R14(157.48,-188.98) R15(188.98,-188.98) R16(220.47,-188.98) R17(251.97,-188.98) T1(-251.97,-220.47) T2(-220.47,-220.47) T3(-188.98,-220.47) T4(-157.48,-220.47) T5(-125.98,-220.47) T6(-94.49,-220.47) T7(-62.99,-220.47) T8(-31.5,-220.47) T9(0,-220.47) T10(31.5,-220.47) T11(62.99,-220.47) T12(94.49,-220.47) T13(125.98,-220.47) T14(157.48,-220.47) T15(188.98,-220.47) T16(220.47,-220.47) T17(251.97,-220.47) U1(-251.97,-251.97) U2(-220.47,-251.97) U3(-188.98,-251.97) U4(-157.48,-251.97) U5(-125.98,-251.97) U6(-94.49,-251.97) U7(-62.99,-251.97) U8(-31.5,-251.97) U9(0,-251.97) U10(31.5,-251.97) U11(62.99,-251.97) U12(94.49,-251.97) U13(125.98,-251.97) U14(157.48,-251.97) U15(188.98,-251.97) U16(220.47,-251.97) U17(251.97,-251.97)
Top Overlay:
  lines w6: -288.5,-188.98 -278.5,-188.98 ; -288.5,-31.5 -278.5,-31.5 ; -288.5,125.98 -278.5,125.98 ; -125.98,-288.5 -125.98,-278.5 ; -125.98,278.5 -125.98,288.5 ; 31.5,-288.5 31.5,-278.5 ; 31.5,278.5 31.5,288.5 ; 188.98,-288.5 188.98,-278.5 ; 188.98,278.5 188.98,288.5 ; 278.5,-188.98 288.5,-188.98 ; 278.5,-31.5 288.5,-31.5 ; 278.5,125.98 288.5,125.98 ; -283.5,-283.5 283.5,-283.5 283.5,283.5 -283.5,283.5 -283.5,-283.5
Mechanical 15:
  lines w6: -288.5,-288.5 -288.5,288.5 288.5,288.5 288.5,-288.5 -288.5,-288.5
3D body "TFBGA14X14X1_2P0_824025L.step": height 43.11, standoff 0.01, extent -278.5,-278.5 278.5,278.5

## TSSOP8 [mm] "NTAG I2C plus: NFC Forum T2T with I2C interface, password  protection and energy harvesting"
height 1.1
pads (8):
  oval 1.35x0.6 smd: 1(0,0) 2(0,-0.7) 3(0,-1.4) 4(0,-2.1) 5(4.45,-2.1) 6(4.45,-1.4) 7(4.45,-0.7) 8(4.45,0)
Top Overlay:
  circle w0.6: c2.075,-0.5 r0.3
  circle w0.25: c0,0.85 r0.125
  lines w0.2: 1.075,-2.6 3.375,-2.6 3.375,0.5 1.075,0.5 1.075,-2.6
Mechanical 13:
  circle w0.1: c1.575,-0.4 r0.5
  lines w0.1: 0.675,-2.6 3.775,-2.6 3.775,0.5 0.675,0.5 0.675,-2.6
Mechanical 15:
  lines w0.05: -0.925,-2.85 5.375,-2.85 5.375,0.75 -0.925,0.75 -0.925,-2.85
  lines w0.1: 1.725,-1.05 2.725,-1.05 ; 2.225,-1.55 2.225,-0.55
3D body: height 1.1, standoff 0.05, extent 0.675,-2.6 3.775,0.5

## TSSOP20 [mm]
pads (20):
  rect 1.462x0.355 smd paste+0 mask+0: 1(-2.921,2.925) 2(-2.921,2.275) 3(-2.921,1.625) 4(-2.921,0.975) 5(-2.921,0.325) 6(-2.921,-0.325) 7(-2.921,-0.975) 8(-2.921,-1.625) 9(-2.921,-2.275) 10(-2.921,-2.925) 11(2.921,-2.925) 12(2.921,-2.275) 13(2.921,-1.625) 14(2.921,-0.975) 15(2.921,-0.325) 16(2.921,0.325) 17(2.921,0.975) 18(2.921,1.625) 19(2.921,2.275) 20(2.921,2.925)
Top Overlay:
  region: -3.906,-2.734 -4.16,-2.734 -4.16,-3.115 -3.906,-3.115
  region: 3.906,3.115 4.16,3.115 4.16,2.734 3.906,2.734
  lines w0.152: -2.126,-3.429 2.126,-3.429 ; -2.126,3.429 2.126,3.429
  text "*" at -3.344,3.29 h1.27
Mechanical 15:
  lines w0.152: -3.906,-3.356 -3.906,3.356 -2.489,3.356 -2.489,3.556 2.489,3.556 2.489,3.356 3.906,3.356 3.906,-3.356 2.489,-3.356 2.489,-3.556 -2.489,-3.556 -2.489,-3.356 -3.906,-3.356
3D body "TSSOP20.step": height 1.2, standoff 0, extent -3.302,-3.302 3.302,3.302

## UFQFPN28 [mil]
pads (28):
  rect 22x12 smd: 1(-81.5,59.06) 7(-81.5,-59.06) 15(81.5,-59.06) 21(81.5,59.06)
  rect 32x12 smd: 2(-76.5,39.37) 3(-76.5,19.68) 4(-76.5,0) 5(-76.5,-19.68) 6(-76.5,-39.37) 16(76.5,-39.37) 17(76.5,-19.68) 18(76.5,0) 19(76.5,19.68) 20(76.5,39.37)
  rect 12x22 smd: 8(-59.06,-81.5) 14(59.06,-81.5) 22(59.06,81.5) 28(-59.06,81.5)
  rect 12x32 smd: 9(-39.37,-76.5) 10(-19.68,-76.5) 11(0,-76.5) 12(19.68,-76.5) 13(39.37,-76.5) 23(39.37,76.5) 24(19.68,76.5) 25(0,76.5) 26(-19.68,76.5) 27(-39.37,76.5)
Top Overlay:
  lines w6: -85.5,-78.16 -85.5,-85.5 -78.16,-85.5 ; -85.5,78.16 -85.5,85.5 -78.16,85.5 ; 78.16,-85.5 85.5,-85.5 85.5,-78.16 ; 78.16,85.5 85.5,85.5 85.5,78.16
  text "*" at -122.98,68.35 h31.25
Mechanical 1:
  lines w1: -80.5,30.5 -30.5,80.5 ; -80.5,-80.5 -80.5,80.5 80.5,80.5 80.5,-80.5 -80.5,-80.5 ; -80.5,-65.06 -80.5,-53.06 -80.5,-65.06 ; -80.5,-45.37 -80.5,-33.37 -80.5,-45.37 ; -80.5,-25.68 -80.5,-13.69 -80.5,-25.68 ; -80.5,-6 -80.5,6 -80.5,-6 ; -80.5,13.69 -80.5,25.68 -80.5,13.69 ; -80.5,33.37 -80.5,45.37 -80.5,33.37 ; -80.5,53.06 -80.5,65.06 -80.5,53.06 ; -65.06,-80.5 -53.06,-80.5 -65.06,-80.5 ; -65.06,80.5 -53.06,80.5 -65.06,80.5 ; -45.37,-80.5 -33.37,-80.5 -45.37,-80.5 ; -45.37,80.5 -33.37,80.5 -45.37,80.5 ; -25.68,-80.5 -13.69,-80.5 -25.68,-80.5 ; -25.68,80.5 -13.69,80.5 -25.68,80.5 ; -6,-80.5 6,-80.5 -6,-80.5 ; -6,80.5 6,80.5 -6,80.5 ; 13.69,-80.5 25.68,-80.5 13.69,-80.5 ; 13.69,80.5 25.68,80.5 13.69,80.5 ; 33.37,-80.5 45.37,-80.5 33.37,-80.5 ; 33.37,80.5 45.37,80.5 33.37,80.5 ; 53.06,-80.5 65.06,-80.5 53.06,-80.5 ; 53.06,80.5 65.06,80.5 53.06,80.5 ; 80.5,-65.06 80.5,-53.06 80.5,-65.06 ; 80.5,-45.37 80.5,-33.37 80.5,-45.37 ; 80.5,-25.68 80.5,-13.69 80.5,-25.68 ; 80.5,-6 80.5,6 80.5,-6 ; 80.5,13.69 80.5,25.68 80.5,13.69 ; 80.5,33.37 80.5,45.37 80.5,33.37 ; 80.5,53.06 80.5,65.06 80.5,53.06
  text "*" at -122.98,68.35 h31.25
3D body "UFQFPN28-4x4mm.step": height 24.09, standoff 0, extent -80.51,-80.51 80.51,80.51